# Altium footprint library IC packages.PcbLib: 68 footprints (part 5 of 5)
Each footprint in its own frame and in the unit in brackets; x right, y up, seen from the top. Pads: shape width x height; smd on the part's side, far side on the other; paste and mask are expansions set on the pad; w line width, h text height; cw(c..) or ccw(c..) is an arc to the next point about the centre after c.
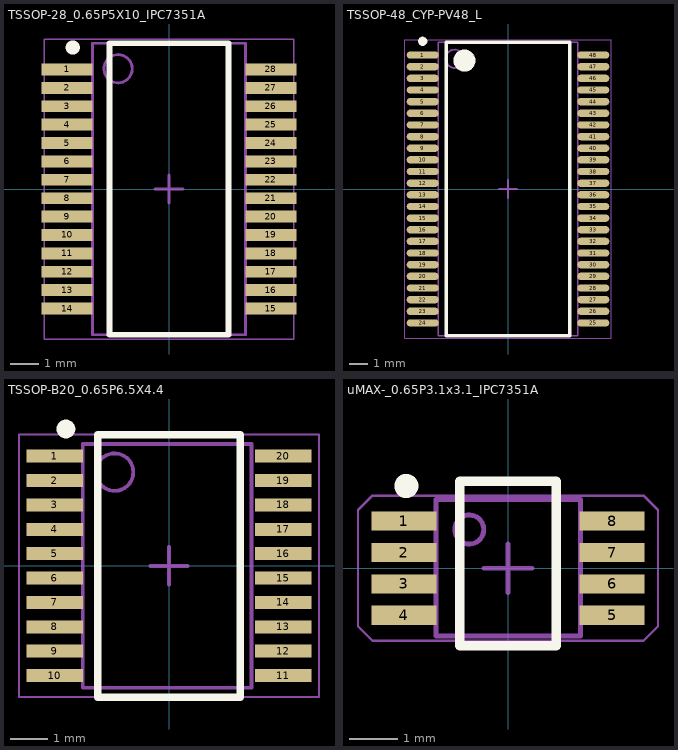
[diagram p4: the footprints below, top view; thin cyan lines are the x and y axes]

## TSSOP-28_0.65P5X10_IPC7351A [mm] "SOP, 28-Leads, Body 10.2x5.29mm, Pitch 0.65mm, IPC High Density"
height 2
pads (28):
  rect 1.8x0.42 smd mask+0.08: 1(-3.6,4.225) 2(-3.6,3.575) 3(-3.6,2.925) 4(-3.6,2.275) 5(-3.6,1.625) 6(-3.6,0.975) 7(-3.6,0.325) 8(-3.6,-0.325) 9(-3.6,-0.975) 10(-3.6,-1.625) 11(-3.6,-2.275) 12(-3.6,-2.925) 13(-3.6,-3.575) 14(-3.6,-4.225) 15(3.6,-4.225) 16(3.6,-3.575) 17(3.6,-2.925) 18(3.6,-2.275) 19(3.6,-1.625) 20(3.6,-0.975) 21(3.6,-0.325) 22(3.6,0.325) 23(3.6,0.975) 24(3.6,1.625) 25(3.6,2.275) 26(3.6,2.925) 27(3.6,3.575) 28(3.6,4.225)
Top Overlay:
  circle w0.25: c-3.4,5 r0.125
  lines w0.2: -2.1,-5.15 -2.1,5.15 2.1,5.15 2.1,-5.15 -2.1,-5.15
Mechanical 1:
  circle w0.1: c-1.8,4.25 r0.5
  lines w0.1: -2.7,-5.15 2.7,-5.15 2.7,5.15 -2.7,5.15 -2.7,-5.15
  text ".Designator" at -0.5,2 h1.52
Mechanical 15:
  lines w0.05: -4.4,-5.3 -4.4,5.3 4.4,5.3 4.4,-5.3 -4.4,-5.3
  lines w0.1: -0.5,0 0.5,0 ; 0,-0.5 0,0.5
3D body: height 1.99, standoff 0.05, extent -2.7,-5.15 2.7,5.15

## TSSOP-48_CYP-PV48_L [mm] "SOP, 48-Leads, Body 15.875x7.5057mm, Pitch 0.635mm, IPC High Density"
height 2.8
pads (48):
  oval 1.75x0.4 smd: 1(-4.65,7.302) 2(-4.65,6.667) 3(-4.65,6.032) 4(-4.65,5.397) 5(-4.65,4.763) 6(-4.65,4.127) 7(-4.65,3.492) 8(-4.65,2.857) 9(-4.65,2.222) 10(-4.65,1.587) 11(-4.65,0.953) 12(-4.65,0.318) 13(-4.65,-0.318) 14(-4.65,-0.953) 15(-4.65,-1.587) 16(-4.65,-2.222) 17(-4.65,-2.857) 18(-4.65,-3.492) 19(-4.65,-4.127) 20(-4.65,-4.763) 21(-4.65,-5.397) 22(-4.65,-6.032) 23(-4.65,-6.667) 24(-4.65,-7.302) 25(4.65,-7.302) 26(4.65,-6.667) 27(4.65,-6.032) 28(4.65,-5.397) 29(4.65,-4.763) 30(4.65,-4.127) 31(4.65,-3.492) 32(4.65,-2.857) 33(4.65,-2.222) 34(4.65,-1.587) 35(4.65,-0.953) 36(4.65,-0.318) 37(4.65,0.318) 38(4.65,0.953) 39(4.65,1.587) 40(4.65,2.222) 41(4.65,2.857) 42(4.65,3.492) 43(4.65,4.127) 44(4.65,4.763) 45(4.65,5.397) 46(4.65,6.032) 47(4.65,6.667) 48(4.65,7.302)
Top Overlay:
  circle w0.6: c-2.375,7 r0.3
  circle w0.25: c-4.65,8.053 r0.125
  lines w0.2: -3.375,-8 3.375,-8 3.375,8 -3.375,8 -3.375,-8
Mechanical 1:
  circle w0.1: c-2.9,7.1 r0.5
  lines w0.1: -3.8,-8 3.8,-8 3.8,8 -3.8,8 -3.8,-8
  text ".Designator" at -1.387,0.286 h1
Mechanical 15:
  lines w0.05: -5.625,-8.15 5.625,-8.15 5.625,8.15 -5.625,8.15 -5.625,-8.15
  lines w0.1: -0.5,0 0.5,0 ; 0,-0.5 0,0.5
3D body: height 2.8, standoff 0.2, extent -3.8,-8 3.8,8

## TSSOP-B20_0.65P6.5X4.4 [mm] "SOP, 20-Leads, Body 6.5x4.4mm, Pitch 0.65mm"
height 1.1
pads (20):
  rect 1.5x0.35 smd: 1(-3.05,2.925) 2(-3.05,2.275) 3(-3.05,1.625) 4(-3.05,0.975) 5(-3.05,0.325) 6(-3.05,-0.325) 7(-3.05,-0.975) 8(-3.05,-1.625) 9(-3.05,-2.275) 10(-3.05,-2.925) 11(3.05,-2.925) 12(3.05,-2.275) 13(3.05,-1.625) 14(3.05,-0.975) 15(3.05,-0.325) 16(3.05,0.325) 17(3.05,0.975) 18(3.05,1.625) 19(3.05,2.275) 20(3.05,2.925)
Top Overlay:
  circle w0.25: c-2.75,3.65 r0.125
  lines w0.2: -1.9,-3.5 -1.9,3.5 1.9,3.5 1.9,-3.5 -1.9,-3.5
Mechanical 1:
  text ".Designator" at -0.2,1.1 h1.52
Mechanical 13:
  circle w0.1: c-1.45,2.5 r0.5
  lines w0.1: -2.3,-3.25 -2.3,3.25 2.2,3.25 2.2,-3.25 -2.3,-3.25
Mechanical 15:
  lines w0.05: -4,-3.5 -4,3.5 4,3.5 4,-3.5 -4,-3.5
  lines w0.1: -0.5,0 0.5,0 ; 0,-0.5 0,0.5
3D body: height 2, standoff 0.05, extent -2.3,-3.25 2.2,3.25

## uMAX-_0.65P3.1x3.1_IPC7351A [mm] "uMAX 8-Leads, Body 3.1x3.1mm, Pitch 0.65mm, IPC High Density"
height 1.1
pads (8):
  rect 1.35x0.4 smd: 1(-2.15,0.975) 2(-2.15,0.325) 3(-2.15,-0.325) 4(-2.15,-0.975) 5(2.15,-0.975) 6(2.15,-0.325) 7(2.15,0.325) 8(2.15,0.975)
Top Overlay:
  circle w0.25: c-2.1,1.7 r0.125
  lines w0.2: -1,-1.6 1,-1.6 1,1.8 -1,1.8 -1,-1.6
Mechanical 1:
  text ".Designator" at -0.6,1.8 h1.52
Mechanical 13:
  circle w0.1: c-0.8,0.8 r0.3
  lines w0.1: -1.489,-1.4 1.5,-1.4 1.5,1.423 -1.489,1.423 -1.489,-1.4
Mechanical 15:
  lines w0.05: -3.1,-1.2 -2.8,-1.5 2.8,-1.5 3.1,-1.2 3.1,1.2 2.8,1.5 -2.8,1.5 -3.1,1.2 -3.1,-1.2
  lines w0.1: -0.5,0 0.5,0 ; 0,-0.5 0,0.5
3D body "SW3dPS-uMAX8.STEP": height 0.95, standoff 0, extent -2.5,-1.5 2.501,1.5